# Altium footprint library YaoPCB.PCBLIB: 415 footprints (part 13 of 26)
Each footprint in its own frame and in the unit in brackets; x right, y up, seen from the top. Pads: shape width x height; smd on the part's side, far side on the other; paste and mask are expansions set on the pad; w line width, h text height; cw(c..) or ccw(c..) is an arc to the next point about the centre after c.
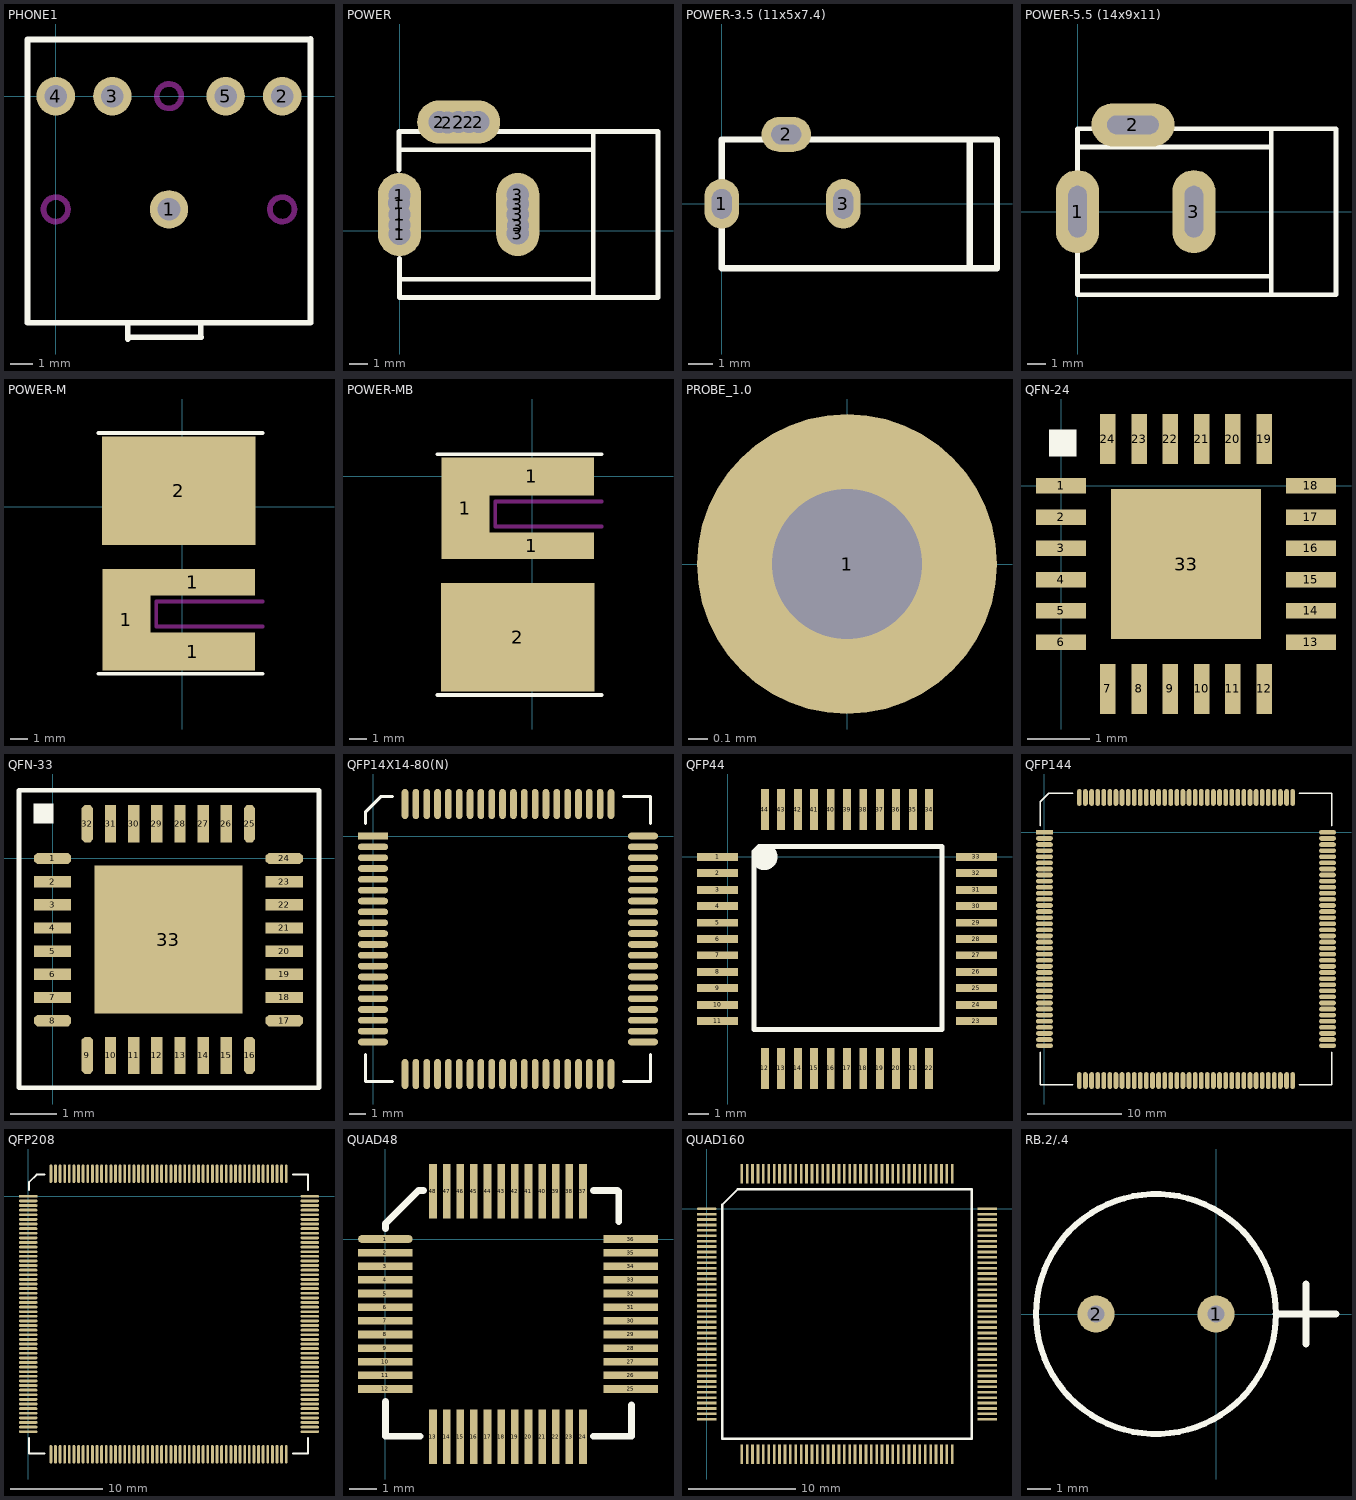
[diagram p12: the footprints below, top view; thin cyan lines are the x and y axes]

## PHONE1 [mil]
pads (5):
  round 68 hole 40: 1(200,-200) 2(400,0) 3(100,0) 4(0,0) 5(300,0)
TopOverlay:
  lines w10: 127,-400 127,-429 130,-426 257,-426 256,-425 256,-400 ; -50,-400 -50,100 200,100 449,100 450,101 450,-400 -50,-400
KeepOutLayer:
  circle w10: c0,-200 r21.65
  circle w10: c400,-200 r21.65
  circle w10: c200,0 r21.65

## POWER [mil]
pads (15):
  round 47 hole 47: 1(-1,59) 1(0,-7) 1(0,13) 1(0,76) 2(85,232) 2(102,231) 2(148,232) 2(168,232) 3(252,-6) 3(252,57) 3(252,77) 3(253,11)
  oval 92x177.17 hole 47: 1(0,35) 3(252,35)
  oval 177.17x92 hole 47: 2(126,232)
TopOverlay:
  lines w10: -1,129 -1,211.94 ; 0,-103 413,-103 ; 0,-59.06 0,-142 551,-142 551,212 0,212 ; 0,173 413,173 ; 413,-142 413,212

## POWER-3.5 (11x5x7.4) [mm]
pads (3):
  oval 1.4x2 hole 0.8 slot 1.2 at 90 deg: 1(0,0) 3(4.9,0)
  oval 2x1.4 hole 0.8 slot 1.2 at 0 deg: 2(2.6,2.8)
TopOverlay:
  lines w0.254: 10,-2.6 10,2.6 ; 0,-2.6 0,2.6 11.1,2.6 11.1,-2.6 0,-2.6

## POWER-5.5 (14x9x11) [mm]
pads (3):
  oval 2.337x4.5 hole 1 slot 2.8 at 90 deg: 1(0,0) 3(6.3,0)
  oval 4.5x2.337 hole 1 slot 2.8 at 0 deg: 2(3,4.7)
TopOverlay:
  lines w0.254: 0,-3.505 10.49,-3.505 ; 0,3.505 10.49,3.505 ; 10.49,-4.496 10.49,4.496 ; 0,-4.496 0,4.496 13.995,4.496 13.995,-4.496 0,-4.496

## POWER-M [mm]
pads (4):
  rect 2.7x5.7 smd: 1(-3.124,-6.325)
  rect 7x2.15 smd: 1(0.584,-8.103)
  rect 7x1.5 smd: 1(0.584,-4.216)
  rect 8.6x6.1 smd: 2(-0.2,0.906)
TopOverlay:
  lines w0.203: -4.699,-9.347 4.5,-9.347 ; -4.699,4.14 4.5,4.14
KeepOutLayer:
  lines w0.203: 4.5,-6.7 -1.45,-6.7 -1.45,-5.3 4.5,-5.3

## POWER-MB [mm]
pads (4):
  rect 2.7x5.7 smd: 1(-3.734,-1.803)
  rect 7x1.5 smd: 1(-0.025,-3.912)
  rect 7x2.15 smd: 1(-0.025,-0.025)
  rect 8.6x6.1 smd: 2(-0.81,-9.034)
TopOverlay:
  lines w0.203: -5.309,-12.268 3.89,-12.268 ; -5.309,1.219 3.89,1.219
KeepOutLayer:
  lines w0.203: 3.89,-2.828 -2.06,-2.828 -2.06,-1.428 3.89,-1.428

## PROBE_1.0 [mm]
pads (1):
  round 1.52 hole 0.762: 1(0,0)

## QFN-24 [mm]
pads (25):
  rect 0.8x0.245 smd: 1(0,0) 2(0,-0.5) 3(0,-1) 4(0,-1.5) 5(0,-2) 6(0,-2.5) 13(4,-2.5) 14(4,-2) 15(4,-1.5) 16(4,-1) 17(4,-0.5) 18(4,0)
  rect 0.245x0.8 smd: 7(0.75,-3.25) 8(1.25,-3.25) 9(1.75,-3.25) 10(2.25,-3.25) 11(2.75,-3.25) 12(3.25,-3.25) 19(3.25,0.75) 20(2.75,0.75) 21(2.25,0.75) 22(1.75,0.75) 23(1.25,0.75) 24(0.75,0.75)
  rect 2.4x2.4 smd: 33(2,-1.25)
TopOverlay:
  rectangle: -0.19,0.47 0.245,0.905

## QFN-33 [mm]
pads (33):
  oct 0.8x0.245 smd: 1(0,0) 8(0,-3.5) 17(5,-3.5) 24(5,0)
  rect 0.8x0.245 smd: 2(0,-0.5) 3(0,-1) 4(0,-1.5) 5(0,-2) 6(0,-2.5) 7(0,-3) 18(5,-3) 19(5,-2.5) 20(5,-2) 21(5,-1.5) 22(5,-1) 23(5,-0.5)
  oct 0.245x0.8 smd: 9(0.75,-4.25) 16(4.25,-4.25) 25(4.25,0.75) 32(0.75,0.75)
  rect 0.245x0.8 smd: 10(1.25,-4.25) 11(1.75,-4.25) 12(2.25,-4.25) 13(2.75,-4.25) 14(3.25,-4.25) 15(3.75,-4.25) 26(3.75,0.75) 27(3.25,0.75) 28(2.75,0.75) 29(2.25,0.75) 30(1.75,0.75) 31(1.25,0.75)
  rect 3.2x3.2 smd: 33(2.5,-1.75)
TopOverlay:
  rectangle: -0.41,0.75 0.025,1.185
  lines w0.102: -0.725,-4.95 5.75,-4.95 5.75,1.475 -0.725,1.475 -0.725,-4.95

## QFP14X14-80(N) [mm]
pads (80):
  rect 1.8x0.4 smd: 1(0,0)
  oval 1.8x0.4 smd: 2(0,-0.65) 3(0,-1.3) 4(0,-1.95) 5(0,-2.6) 6(0,-3.25) 7(0,-3.9) 8(0,-4.55) 9(0,-5.2) 10(0,-5.85) 11(0,-6.5) 12(0,-7.15) 13(0,-7.8) 14(0,-8.45) 15(0,-9.1) 16(0,-9.75) 17(0,-10.4) 18(0,-11.05) 19(0,-11.7) 20(0,-12.35) 41(16.19,-12.35) 42(16.19,-11.7) 43(16.19,-11.05) 44(16.19,-10.4) 45(16.19,-9.75) 46(16.19,-9.1) 47(16.19,-8.45) 48(16.19,-7.8) 49(16.19,-7.15) 50(16.19,-6.5) 51(16.19,-5.85) 52(16.19,-5.2) 53(16.19,-4.55) 54(16.19,-3.9) 55(16.19,-3.25) 56(16.19,-2.6) 57(16.19,-1.95) 58(16.19,-1.3) 59(16.19,-0.65) 60(16.19,0)
  oval 0.4x1.8 smd: 21(1.92,-14.27) 22(2.57,-14.27) 23(3.22,-14.27) 24(3.87,-14.27) 25(4.52,-14.27) 26(5.17,-14.27) 27(5.82,-14.27) 28(6.47,-14.27) 29(7.12,-14.27) 30(7.77,-14.27) 31(8.42,-14.27) 32(9.07,-14.27) 33(9.72,-14.27) 34(10.37,-14.27) 35(11.02,-14.27) 36(11.67,-14.27) 37(12.32,-14.27) 38(12.97,-14.27) 39(13.62,-14.27) 40(14.27,-14.27) 61(14.27,1.92) 62(13.62,1.92) 63(12.97,1.92) 64(12.32,1.92) 65(11.67,1.92) 66(11.02,1.92) 67(10.37,1.92) 68(9.72,1.92) 69(9.07,1.92) 70(8.42,1.92) 71(7.77,1.92) 72(7.12,1.92) 73(6.47,1.92) 74(5.82,1.92) 75(5.17,1.92) 76(4.52,1.92) 77(3.87,1.92) 78(3.22,1.92) 79(2.57,1.92) 80(1.92,1.92)
TopOverlay:
  lines w0.2: -0.45,-13.1 -0.45,-14.72 1.17,-14.72 ; -0.45,0.75 -0.45,1.47 0.45,2.37 1.17,2.37 ; 15.02,-14.72 16.64,-14.72 16.64,-13.1 ; 15.02,2.37 16.64,2.37 16.64,0.75

## QFP44 [mil]
pads (44):
  rect 78.74x15 smd: 1(-19.68,0) 2(-19.68,-31) 3(-19.68,-63) 4(-19.68,-94) 5(-19.68,-126) 6(-19.68,-157) 7(-19.68,-188) 8(-19.68,-220) 9(-19.68,-251) 10(-19.68,-283) 11(-19.68,-314) 23(475.69,-314) 24(475.69,-283) 25(475.69,-251) 26(475.69,-220) 27(475.69,-188) 28(475.69,-157) 29(475.69,-126) 30(475.69,-94) 31(475.69,-63) 32(475.69,-31) 33(475.69,0)
  rect 15x78.74 smd: 12(71,-404.69) 13(102,-404.69) 14(134,-404.69) 15(165,-404.69) 16(197,-404.69) 17(228,-404.69) 18(259,-404.69) 19(291,-404.69) 20(322,-404.69) 21(354,-404.69) 22(385,-404.69) 34(385,90.69) 35(354,90.69) 36(322,90.69) 37(291,90.69) 38(259,90.69) 39(228,90.69) 40(197,90.69) 41(165,90.69) 42(134,90.69) 43(102,90.69) 44(71,90.69)
TopOverlay:
  circle w30: c70,0 r10
  lines w10: 50,-330 50,10 60,20 410,20 410,-330 50,-330

## QFP144 [mm]
pads (144):
  rect 1.8x0.5 smd: 1(0,0)
  oval 1.8x0.5 smd: 2(0,-0.65) 3(0,-1.3) 4(0,-1.95) 5(0,-2.6) 6(0,-3.25) 7(0,-3.9) 8(0,-4.55) 9(0,-5.2) 10(0,-5.85) 11(0,-6.5) 12(0,-7.15) 13(0,-7.8) 14(0,-8.45) 15(0,-9.1) 16(0,-9.75) 17(0,-10.4) 18(0,-11.05) 19(0,-11.7) 20(0,-12.35) 21(0,-13) 22(0,-13.65) 23(0,-14.3) 24(0,-14.95) 25(0,-15.6) 26(0,-16.25) 27(0,-16.9) 28(0,-17.55) 29(0,-18.2) 30(0,-18.85) 31(0,-19.5) 32(0,-20.15) 33(0,-20.8) 34(0,-21.45) 35(0,-22.1) 36(0,-22.75) 73(30.2,-22.75) 74(30.2,-22.1) 75(30.2,-21.45) 76(30.2,-20.8) 77(30.2,-20.15) 78(30.2,-19.5) 79(30.2,-18.85) 80(30.2,-18.2) 81(30.2,-17.55) 82(30.2,-16.9) 83(30.2,-16.25) 84(30.2,-15.6) 85(30.2,-14.95) 86(30.2,-14.3) 87(30.2,-13.65) 88(30.2,-13) 89(30.2,-12.35) 90(30.2,-11.7) 91(30.2,-11.05) 92(30.2,-10.4) 93(30.2,-9.75) 94(30.2,-9.1) 95(30.2,-8.45) 96(30.2,-7.8) 97(30.2,-7.15) 98(30.2,-6.5) 99(30.2,-5.85) 100(30.2,-5.2) 101(30.2,-4.55) 102(30.2,-3.9) 103(30.2,-3.25) 104(30.2,-2.6) 105(30.2,-1.95) 106(30.2,-1.3) 107(30.2,-0.65) 108(30.2,0)
  oval 0.5x1.8 smd: 37(3.725,-26.475) 38(4.375,-26.475) 39(5.025,-26.475) 40(5.675,-26.475) 41(6.325,-26.475) 42(6.975,-26.475) 43(7.625,-26.475) 44(8.275,-26.475) 45(8.925,-26.475) 46(9.575,-26.475) 47(10.225,-26.475) 48(10.875,-26.475) 49(11.525,-26.475) 50(12.175,-26.475) 51(12.825,-26.475) 52(13.475,-26.475) 53(14.125,-26.475) 54(14.775,-26.475) 55(15.425,-26.475) 56(16.075,-26.475) 57(16.725,-26.475) 58(17.375,-26.475) 59(18.025,-26.475) 60(18.675,-26.475) 61(19.325,-26.475) 62(19.975,-26.475) 63(20.625,-26.475) 64(21.275,-26.475) 65(21.925,-26.475) 66(22.575,-26.475) 67(23.225,-26.475) 68(23.875,-26.475) 69(24.525,-26.475) 70(25.175,-26.475) 71(25.825,-26.475) 72(26.475,-26.475) 109(26.475,3.725) 110(25.825,3.725) 111(25.175,3.725) 112(24.525,3.725) 113(23.875,3.725) 114(23.225,3.725) 115(22.575,3.725) 116(21.925,3.725) 117(21.275,3.725) 118(20.625,3.725) 119(19.975,3.725) 120(19.325,3.725) 121(18.675,3.725) 122(18.025,3.725) 123(17.375,3.725) 124(16.725,3.725) 125(16.075,3.725) 126(15.425,3.725) 127(14.775,3.725) 128(14.125,3.725) 129(13.475,3.725) 130(12.825,3.725) 131(12.175,3.725) 132(11.525,3.725) 133(10.875,3.725) 134(10.225,3.725) 135(9.575,3.725) 136(8.925,3.725) 137(8.275,3.725) 138(7.625,3.725) 139(6.975,3.725) 140(6.325,3.725) 141(5.675,3.725) 142(5.025,3.725) 143(4.375,3.725) 144(3.725,3.725)
TopOverlay:
  lines w0.2: -0.45,-23.5 -0.45,-26.925 2.975,-26.925 ; -0.45,0.75 -0.45,3.275 0.45,4.175 2.975,4.175 ; 27.225,-26.925 30.65,-26.925 30.65,-23.5 ; 27.225,4.175 30.65,4.175 30.65,0.75

## QFP208 [mm]
pads (208):
  rect 2x0.305 smd: 1(0,0)
  oval 2x0.305 smd: 2(0,-0.5) 3(0,-1) 4(0,-1.5) 5(0,-2) 6(0,-2.5) 7(0,-3) 8(0,-3.5) 9(0,-4) 10(0,-4.5) 11(0,-5) 12(0,-5.5) 13(0,-6) 14(0,-6.5) 15(0,-7) 16(0,-7.5) 17(0,-8) 18(0,-8.5) 19(0,-9) 20(0,-9.5) 21(0,-10) 22(0,-10.5) 23(0,-11) 24(0,-11.5) 25(0,-12) 26(0,-12.5) 27(0,-13) 28(0,-13.5) 29(0,-14) 30(0,-14.5) 31(0,-15) 32(0,-15.5) 33(0,-16) 34(0,-16.5) 35(0,-17) 36(0,-17.5) 37(0,-18) 38(0,-18.5) 39(0,-19) 40(0,-19.5) 41(0,-20) 42(0,-20.5) 43(0,-21) 44(0,-21.5) 45(0,-22) 46(0,-22.5) 47(0,-23) 48(0,-23.5) 49(0,-24) 50(0,-24.5) 51(0,-25) 52(0,-25.5) 105(30.5,-25.5) 106(30.5,-25) 107(30.5,-24.5) 108(30.5,-24) 109(30.5,-23.5) 110(30.5,-23) 111(30.5,-22.5) 112(30.5,-22) 113(30.5,-21.5) 114(30.5,-21) 115(30.5,-20.5) 116(30.5,-20) 117(30.5,-19.5) 118(30.5,-19) 119(30.5,-18.5) 120(30.5,-18) 121(30.5,-17.5) 122(30.5,-17) 123(30.5,-16.5) 124(30.5,-16) 125(30.5,-15.5) 126(30.5,-15) 127(30.5,-14.5) 128(30.5,-14) 129(30.5,-13.5) 130(30.5,-13) 131(30.5,-12.5) 132(30.5,-12) 133(30.5,-11.5) 134(30.5,-11) 135(30.5,-10.5) 136(30.5,-10) 137(30.5,-9.5) 138(30.5,-9) 139(30.5,-8.5) 140(30.5,-8) 141(30.5,-7.5) 142(30.5,-7) 143(30.5,-6.5) 144(30.5,-6) 145(30.5,-5.5) 146(30.5,-5) 147(30.5,-4.5) 148(30.5,-4) 149(30.5,-3.5) 150(30.5,-3) 151(30.5,-2.5) 152(30.5,-2) 153(30.5,-1.5) 154(30.5,-1) 155(30.5,-0.5) 156(30.5,0)
  oval 0.305x2 smd: 53(2.45,-27.95) 54(2.95,-27.95) 55(3.45,-27.95) 56(3.95,-27.95) 57(4.45,-27.95) 58(4.95,-27.95) 59(5.45,-27.95) 60(5.95,-27.95) 61(6.45,-27.95) 62(6.95,-27.95) 63(7.45,-27.95) 64(7.95,-27.95) 65(8.45,-27.95) 66(8.95,-27.95) 67(9.45,-27.95) 68(9.95,-27.95) 69(10.45,-27.95) 70(10.95,-27.95) 71(11.45,-27.95) 72(11.95,-27.95) 73(12.45,-27.95) 74(12.95,-27.95) 75(13.45,-27.95) 76(13.95,-27.95) 77(14.45,-27.95) 78(14.95,-27.95) 79(15.45,-27.95) 80(15.95,-27.95) 81(16.45,-27.95) 82(16.95,-27.95) 83(17.45,-27.95) 84(17.95,-27.95) 85(18.45,-27.95) 86(18.95,-27.95) 87(19.45,-27.95) 88(19.95,-27.95) 89(20.45,-27.95) 90(20.95,-27.95) 91(21.45,-27.95) 92(21.95,-27.95) 93(22.45,-27.95) 94(22.95,-27.95) 95(23.45,-27.95) 96(23.95,-27.95) 97(24.45,-27.95) 98(24.95,-27.95) 99(25.45,-27.95) 100(25.95,-27.95) 101(26.45,-27.95) 102(26.95,-27.95) 103(27.45,-27.95) 104(27.95,-27.95) 157(27.95,2.45) 158(27.45,2.45) 159(26.95,2.45) 160(26.45,2.45) 161(25.95,2.45) 162(25.45,2.45) 163(24.95,2.45) 164(24.45,2.45) 165(23.95,2.45) 166(23.45,2.45) 167(22.95,2.45) 168(22.45,2.45) 169(21.95,2.45) 170(21.45,2.45) 171(20.95,2.45) 172(20.45,2.45) 173(19.95,2.45) 174(19.45,2.45) 175(18.95,2.45) 176(18.45,2.45) 177(17.95,2.45) 178(17.45,2.45) 179(16.95,2.45) 180(16.45,2.45) 181(15.95,2.45) 182(15.45,2.45) 183(14.95,2.45) 184(14.45,2.45) 185(13.95,2.45) 186(13.45,2.45) 187(12.95,2.45) 188(12.45,2.45) 189(11.95,2.45) 190(11.45,2.45) 191(10.95,2.45) 192(10.45,2.45) 193(9.95,2.45) 194(9.45,2.45) 195(8.95,2.45) 196(8.45,2.45) 197(7.95,2.45) 198(7.45,2.45) 199(6.95,2.45) 200(6.45,2.45) 201(5.95,2.45) 202(5.45,2.45) 203(4.95,2.45) 204(4.45,2.45) 205(3.95,2.45) 206(3.45,2.45) 207(2.95,2.45) 208(2.45,2.45)
TopOverlay:
  lines w0.2: 0.1,-26.2 0.1,-27.85 1.75,-27.85 ; 0.1,0.7 0.1,1.55 0.9,2.35 1.75,2.35 ; 28.65,-27.85 30.3,-27.85 30.3,-26.2 ; 28.65,2.35 30.3,2.35 30.3,0.7

## QUAD48 [mm]
pads (48):
  oval 2x0.279 smd: 1(0,0)
  rect 2x0.279 smd: 2(0,-0.5) 3(0,-1) 4(0,-1.5) 5(0,-2) 6(0,-2.5) 7(0,-3) 8(0,-3.5) 9(0,-4) 10(0,-4.5) 11(0,-5) 12(0,-5.5) 25(9,-5.5) 26(9,-5) 27(9,-4.5) 28(9,-4) 29(9,-3.5) 30(9,-3) 31(9,-2.5) 32(9,-2) 33(9,-1.5) 34(9,-1) 35(9,-0.5) 36(9,0)
  rect 0.279x2 smd: 13(1.75,-7.25) 14(2.25,-7.25) 15(2.75,-7.25) 16(3.25,-7.25) 17(3.75,-7.25) 18(4.25,-7.25) 19(4.75,-7.25) 20(5.25,-7.25) 21(5.75,-7.25) 22(6.25,-7.25) 23(6.75,-7.25) 24(7.25,-7.25) 37(7.25,1.75) 38(6.75,1.75) 39(6.25,1.75) 40(5.75,1.75) 41(5.25,1.75) 42(4.75,1.75) 43(4.25,1.75) 44(3.75,1.75) 45(3.25,1.75) 46(2.75,1.75) 47(2.25,1.75) 48(1.75,1.75)
TopOverlay:
  lines w0.254: 0.011,-5.963 0.011,-7.106 0.011,-7.233 1.281,-7.233 ; 0.011,0.387 0.011,0.569 1.143,1.702 ; 0.305,0.864 0.965,1.524 1.226,1.784 1.408,1.784 ; 7.631,-7.233 9.028,-7.233 9.028,-6.09 ; 7.631,1.784 8.52,1.784 8.56,1.744 8.56,0.641

## QUAD160 [mm]
pads (160):
  oval 1.8x0.254 smd: 1(0,0)
  rect 1.8x0.254 smd: 2(0,-0.5) 3(0,-1) 4(0,-1.5) 5(0,-2) 6(0,-2.5) 7(0,-3) 8(0,-3.5) 9(0,-4) 10(0,-4.5) 11(0,-5) 12(0,-5.5) 13(0,-6) 14(0,-6.5) 15(0,-7) 16(0,-7.5) 17(0,-8) 18(0,-8.5) 19(0,-9) 20(0,-9.5) 21(0,-10) 22(0,-10.5) 23(0,-11) 24(0,-11.5) 25(0,-12) 26(0,-12.5) 27(0,-13) 28(0,-13.5) 29(0,-14) 30(0,-14.5) 31(0,-15) 32(0,-15.5) 33(0,-16) 34(0,-16.5) 35(0,-17) 36(0,-17.5) 37(0,-18) 38(0,-18.5) 39(0,-19) 40(0,-19.5) 81(26,-19.5) 82(26,-19) 83(26,-18.5) 84(26,-18) 85(26,-17.5) 86(26,-17) 87(26,-16.5) 88(26,-16) 89(26,-15.5) 90(26,-15) 91(26,-14.5) 92(26,-14) 93(26,-13.5) 94(26,-13) 95(26,-12.5) 96(26,-12) 97(26,-11.5) 98(26,-11) 99(26,-10.5) 100(26,-10) 101(26,-9.5) 102(26,-9) 103(26,-8.5) 104(26,-8) 105(26,-7.5) 106(26,-7) 107(26,-6.5) 108(26,-6) 109(26,-5.5) 110(26,-5) 111(26,-4.5) 112(26,-4) 113(26,-3.5) 114(26,-3) 115(26,-2.5) 116(26,-2) 117(26,-1.5) 118(26,-1) 119(26,-0.5) 120(26,0)
  rect 0.254x1.8 smd: 41(3.25,-22.75) 42(3.75,-22.75) 43(4.25,-22.75) 44(4.75,-22.75) 45(5.25,-22.75) 46(5.75,-22.75) 47(6.25,-22.75) 48(6.75,-22.75) 49(7.25,-22.75) 50(7.75,-22.75) 51(8.25,-22.75) 52(8.75,-22.75) 53(9.25,-22.75) 54(9.75,-22.75) 55(10.25,-22.75) 56(10.75,-22.75) 57(11.25,-22.75) 58(11.75,-22.75) 59(12.25,-22.75) 60(12.75,-22.75) 61(13.25,-22.75) 62(13.75,-22.75) 63(14.25,-22.75) 64(14.75,-22.75) 65(15.25,-22.75) 66(15.75,-22.75) 67(16.25,-22.75) 68(16.75,-22.75) 69(17.25,-22.75) 70(17.75,-22.75) 71(18.25,-22.75) 72(18.75,-22.75) 73(19.25,-22.75) 74(19.75,-22.75) 75(20.25,-22.75) 76(20.75,-22.75) 77(21.25,-22.75) 78(21.75,-22.75) 79(22.25,-22.75) 80(22.75,-22.75) 121(22.75,3.25) 122(22.25,3.25) 123(21.75,3.25) 124(21.25,3.25) 125(20.75,3.25) 126(20.25,3.25) 127(19.75,3.25) 128(19.25,3.25) 129(18.75,3.25) 130(18.25,3.25) 131(17.75,3.25) 132(17.25,3.25) 133(16.75,3.25) 134(16.25,3.25) 135(15.75,3.25) 136(15.25,3.25) 137(14.75,3.25) 138(14.25,3.25) 139(13.75,3.25) 140(13.25,3.25) 141(12.75,3.25) 142(12.25,3.25) 143(11.75,3.25) 144(11.25,3.25) 145(10.75,3.25) 146(10.25,3.25) 147(9.75,3.25) 148(9.25,3.25) 149(8.75,3.25) 150(8.25,3.25) 151(7.75,3.25) 152(7.25,3.25) 153(6.75,3.25) 154(6.25,3.25) 155(5.75,3.25) 156(5.25,3.25) 157(4.75,3.25) 158(4.25,3.25) 159(3.75,3.25) 160(3.25,3.25)
TopOverlay:
  lines w0.2: 1.435,-21.315 1.435,0.38 2.87,1.815 24.565,1.815 24.565,-21.315 1.435,-21.315

## RB.2/.4 [mil]
pads (2):
  round 62 hole 28: 1(0,0) 2(-200,0)
TopOverlay:
  circle w10: c-100,0 r200
  lines w12: 100,0 200,0 ; 150,-50 150,50